# Altium integrated library ST Video Multiplexer.IntLib: 3 symbols
Pins are listed as number, name and electrical type; pins without a type are passive.

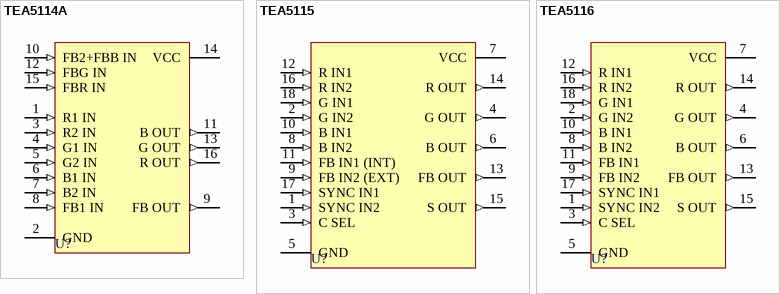
[diagram p0: symbols TEA5114A to TEA5116]

## TEA5114A
designator U?
RGB Switching Circuit; Published: 24-Aug-2001; LatestRevisionDate: 6-Jun-2005; LatestRevisionNote: Stylized 3D Model Added.; DatasheetDocument: May-1996; PackageDocument: Apr-1996; PackageReference: DIP16; Publisher: Altium Limited; ComponentLink1Description: Manufacturer Link; ComponentLink1URL: http://www.st.com/
footprint DIP16 (DIP; 16 Leads; Row Spacing 7.62 mm; Pitch 2.54 mm)
3D model DIP16 (DIP; 16 Leads; Row Spacing 7.62 mm; Pitch 2.54 mm)
pins: 1 R1 IN (in), 2 GND (power), 3 R2 IN (in), 4 G1 IN (in), 5 G2 IN (in), 6 B1 IN (in), 7 B2 IN (in), 8 FB1 IN (in), 9 FB OUT (out), 10 FB2+FBB IN (in), 11 B OUT (out), 12 FBG IN (in), 13 G OUT (out), 14 VCC (power), 15 FBR IN (in), 16 R OUT (out)

## TEA5115
designator U?
5-Channel Video Switch; Published: 24-Aug-2001; LatestRevisionDate: 6-Jun-2005; LatestRevisionNote: Stylized 3D Model Added.; DatasheetDocument: Sep-1993; PackageReference: DIP18; Publisher: Altium Limited; ComponentLink1Description: Manufacturer Link; ComponentLink1URL: http://www.st.com/
footprint DIP18 (DIP; 18 Leads; Row Spacing 7.62 mm; Pitch 2.54 mm)
3D model DIP18 (DIP; 18 Leads; Row Spacing 7.62 mm; Pitch 2.54 mm)
pins: 1 SYNC IN2 (in), 2 G IN2 (in), 3 C SEL (in), 4 G OUT (out), 5 GND (power), 6 B OUT (out), 7 VCC (power), 8 B IN2 (in), 9 FB IN2 (EXT) (in), 10 B IN1 (in), 11 FB IN1 (INT) (in), 12 R IN1 (in), 13 FB OUT (out), 14 R OUT (out), 15 S OUT (out), 16 R IN2 (in), 17 SYNC IN1 (in), 18 G IN1 (in)

## TEA5116
designator U?
5-Channel Video Switch; Published: 24-Aug-2001; LatestRevisionDate: 6-Jun-2005; LatestRevisionNote: Stylized 3D Model Added.; DatasheetDocument: May-1996; PackageReference: DIP18; Publisher: Altium Limited; ComponentLink1Description: Manufacturer Link; ComponentLink1URL: http://www.st.com/
footprint DIP18 (DIP; 18 Leads; Row Spacing 7.62 mm; Pitch 2.54 mm)
3D model DIP18 (DIP; 18 Leads; Row Spacing 7.62 mm; Pitch 2.54 mm)
pins: 1 SYNC IN2 (in), 2 G IN2 (in), 3 C SEL (in), 4 G OUT (out), 5 GND (power), 6 B OUT (out), 7 VCC (power), 8 B IN2 (in), 9 FB IN2 (in), 10 B IN1 (in), 11 FB IN1 (in), 12 R IN1 (in), 13 FB OUT (out), 14 R OUT (out), 15 S OUT (out), 16 R IN2 (in), 17 SYNC IN1 (in), 18 G IN1 (in)